# Altium footprint library ECS-1612MV-250-CN-TR.PcbLib: 1 footprints
Each footprint in its own frame and in the unit in brackets; x right, y up, seen from the top. Pads: shape width x height; smd on the part's side, far side on the other; paste and mask are expansions set on the pad; w line width, h text height; cw(c..) or ccw(c..) is an arc to the next point about the centre after c.
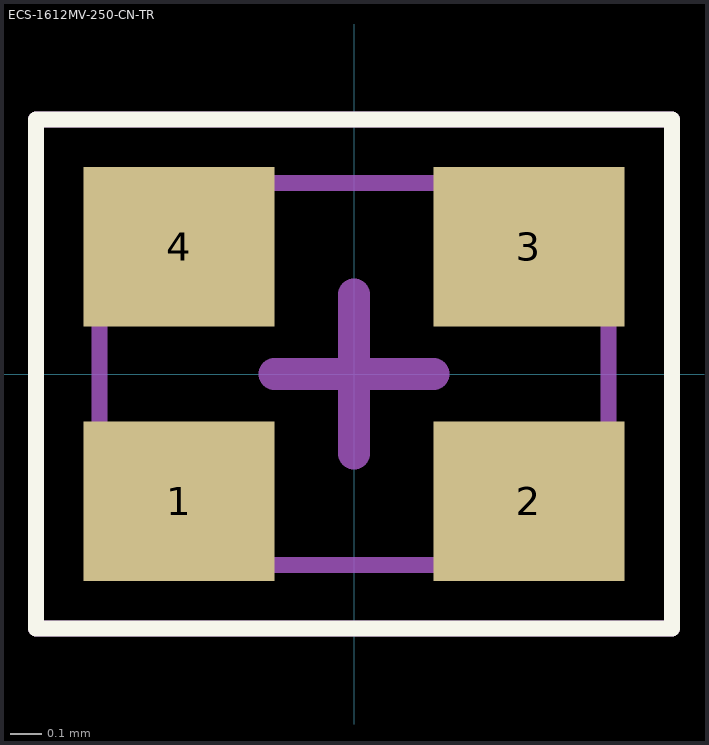
[diagram p0: the footprint, top view; thin cyan lines are the x and y axes]

## ECS-1612MV-250-CN-TR [mm]
pads (4):
  rect 0.6x0.5 smd: 1(-0.55,-0.4) 2(0.55,-0.4) 3(0.55,0.4) 4(-0.55,0.4)
Top Overlay:
  lines w0.05: -1,-0.8 1,-0.8 1,0.8 -1,0.8 -1,-0.8
Mechanical 1:
  lines w0.05: -0.8,-0.6 -0.8,0.6 0.8,0.6 0.8,-0.6 -0.8,-0.6
Mechanical 15:
  lines w0.05: -1,-0.8 -1,0.8 1,0.8 1,-0.8 -1,-0.8
  lines w0.1: -0.25,0 0.25,0 ; 0,-0.25 0,0.25
3D body "ECS-1612MV-250-CN-TR.STEP": height 0.7, standoff 0, extent -0.8,-0.6 0.8,0.6